# EAGLE library part 28 (library display-lcd-lxd)
2 Numerical Digit, .70" (17.78) Direct Drive Display Additional Descriptors: none
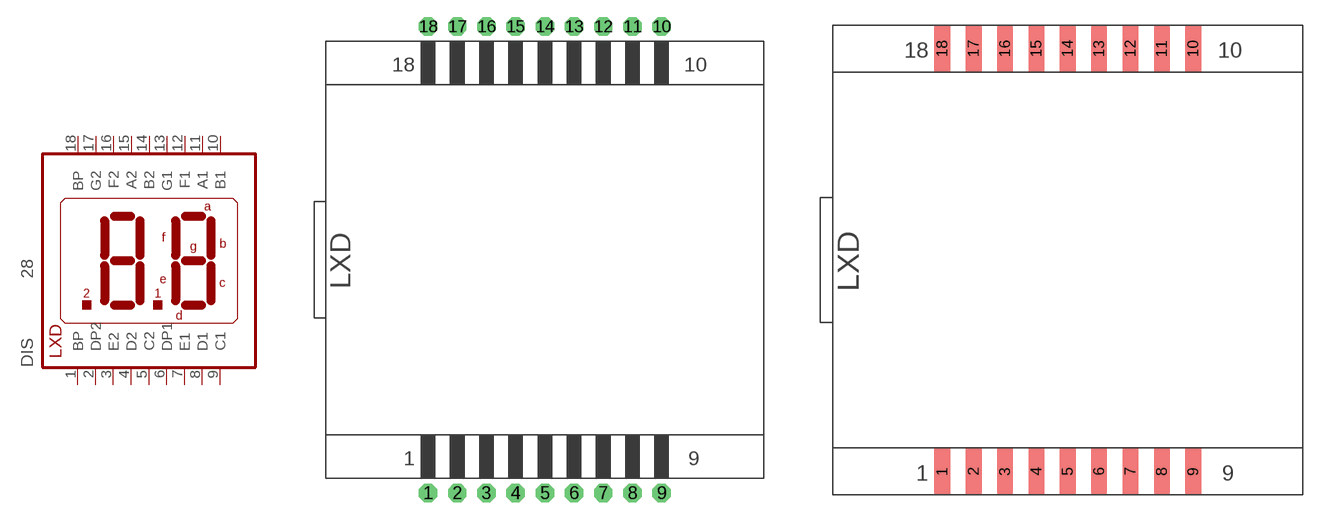
[diagram p6: symbol with the pads of 28-D; footprints 28-D, 28-E]

Designator prefix DIS

## 28DIP  [28-D]
1  BP  pas
2  DP2  pas
3  E2  pas
4  D2  pas
5  C2  pas
6  DP1  pas
7  E1  pas
8  D1  pas
9  C1  pas
10  B1  pas
11  A1  pas
12  F1  pas
13  G1  pas
14  B2  pas
15  A2  pas
16  F2  pas
17  G2  pas
18  BP  pas

## 28SMD  [28-E]
Pads as for 28-D

## Footprint 28-D (pad centres in mm)
Glass Size: 1.50" x 1.50" &nbsp &nbsp &nbsp &nbsp &nbsp &nbsp &nbsp &nbsp &nbsp (38.10 x 38.10)
drill 0.813 pad 1.6 octagon: 1 -10.16,-20.32; 2 -7.62,-20.32; 3 -5.08,-20.32; 4 -2.54,-20.32; 5 0,-20.32; 6 2.54,-20.32; 7 5.08,-20.32; 8 7.62,-20.32; 9 10.16,-20.32; 10 10.16,20.32; 11 7.62,20.32; 12 5.08,20.32; 13 2.54,20.32; 14 0,20.32; 15 -2.54,20.32; 16 -5.08,20.32; 17 -7.62,20.32; 18 -10.16,20.32

## Footprint 28-E (pad centres in mm)
Glass Size: 1.50" x 1.50" &nbsp &nbsp &nbsp &nbsp &nbsp &nbsp &nbsp &nbsp &nbsp (38.10 x 38.10)
smd 1.27 x 3.81: 1 -10.16,-17.145; 2 -7.62,-17.145; 3 -5.08,-17.145; 4 -2.54,-17.145; 5 0,-17.145; 6 2.54,-17.145; 7 5.08,-17.145; 8 7.62,-17.145; 9 10.16,-17.145; 10 10.16,17.145; 11 7.62,17.145; 12 5.08,17.145; 13 2.54,17.145; 14 0,17.145; 15 -2.54,17.145; 16 -5.08,17.145; 17 -7.62,17.145; 18 -10.16,17.145